# EAGLE library part LTC-4727JR (library NEWPARTS)
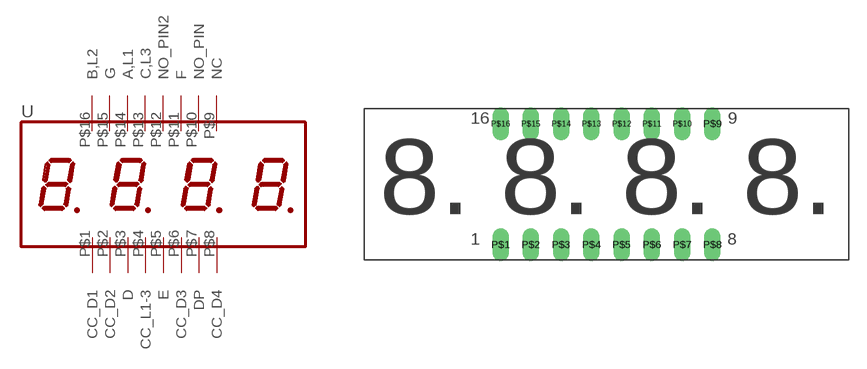
[diagram p9: symbol with the pads of C4727JR; footprint C4727JR]

Designator prefix -

## LTC-4727JR  [C4727JR]
P$1  CC_D1  nc
P$2  CC_D2  nc
P$3  D  nc
P$4  CC_L1-3  nc
P$5  E  nc
P$6  CC_D3  nc
P$7  DP  nc
P$8  CC_D4  nc
P$9  NC  nc
P$10  NO_PIN  nc
P$11  F  nc
P$12  NO_PIN2  nc
P$13  C,L3  nc
P$14  A,L1  nc
P$15  G  nc
P$16  B,L2  nc

## Footprint C4727JR (pad centres in mm)
drill 0.889 long: P$1 -8.89,-5.08; P$2 -6.35,-5.08; P$3 -3.81,-5.08; P$4 -1.27,-5.08; P$5 1.27,-5.08; P$6 3.81,-5.08; P$7 6.35,-5.08; P$8 8.89,-5.08; P$9 8.89,5.08; P$10 6.35,5.08; P$11 3.81,5.08; P$12 1.27,5.08; P$13 -1.27,5.08; P$14 -3.81,5.08; P$15 -6.35,5.08; P$16 -8.89,5.08